# Altium integrated library Analog Devices Data Converters Digital-to-Analog Converters.IntLib: 2231 symbols (part 169 of 181)
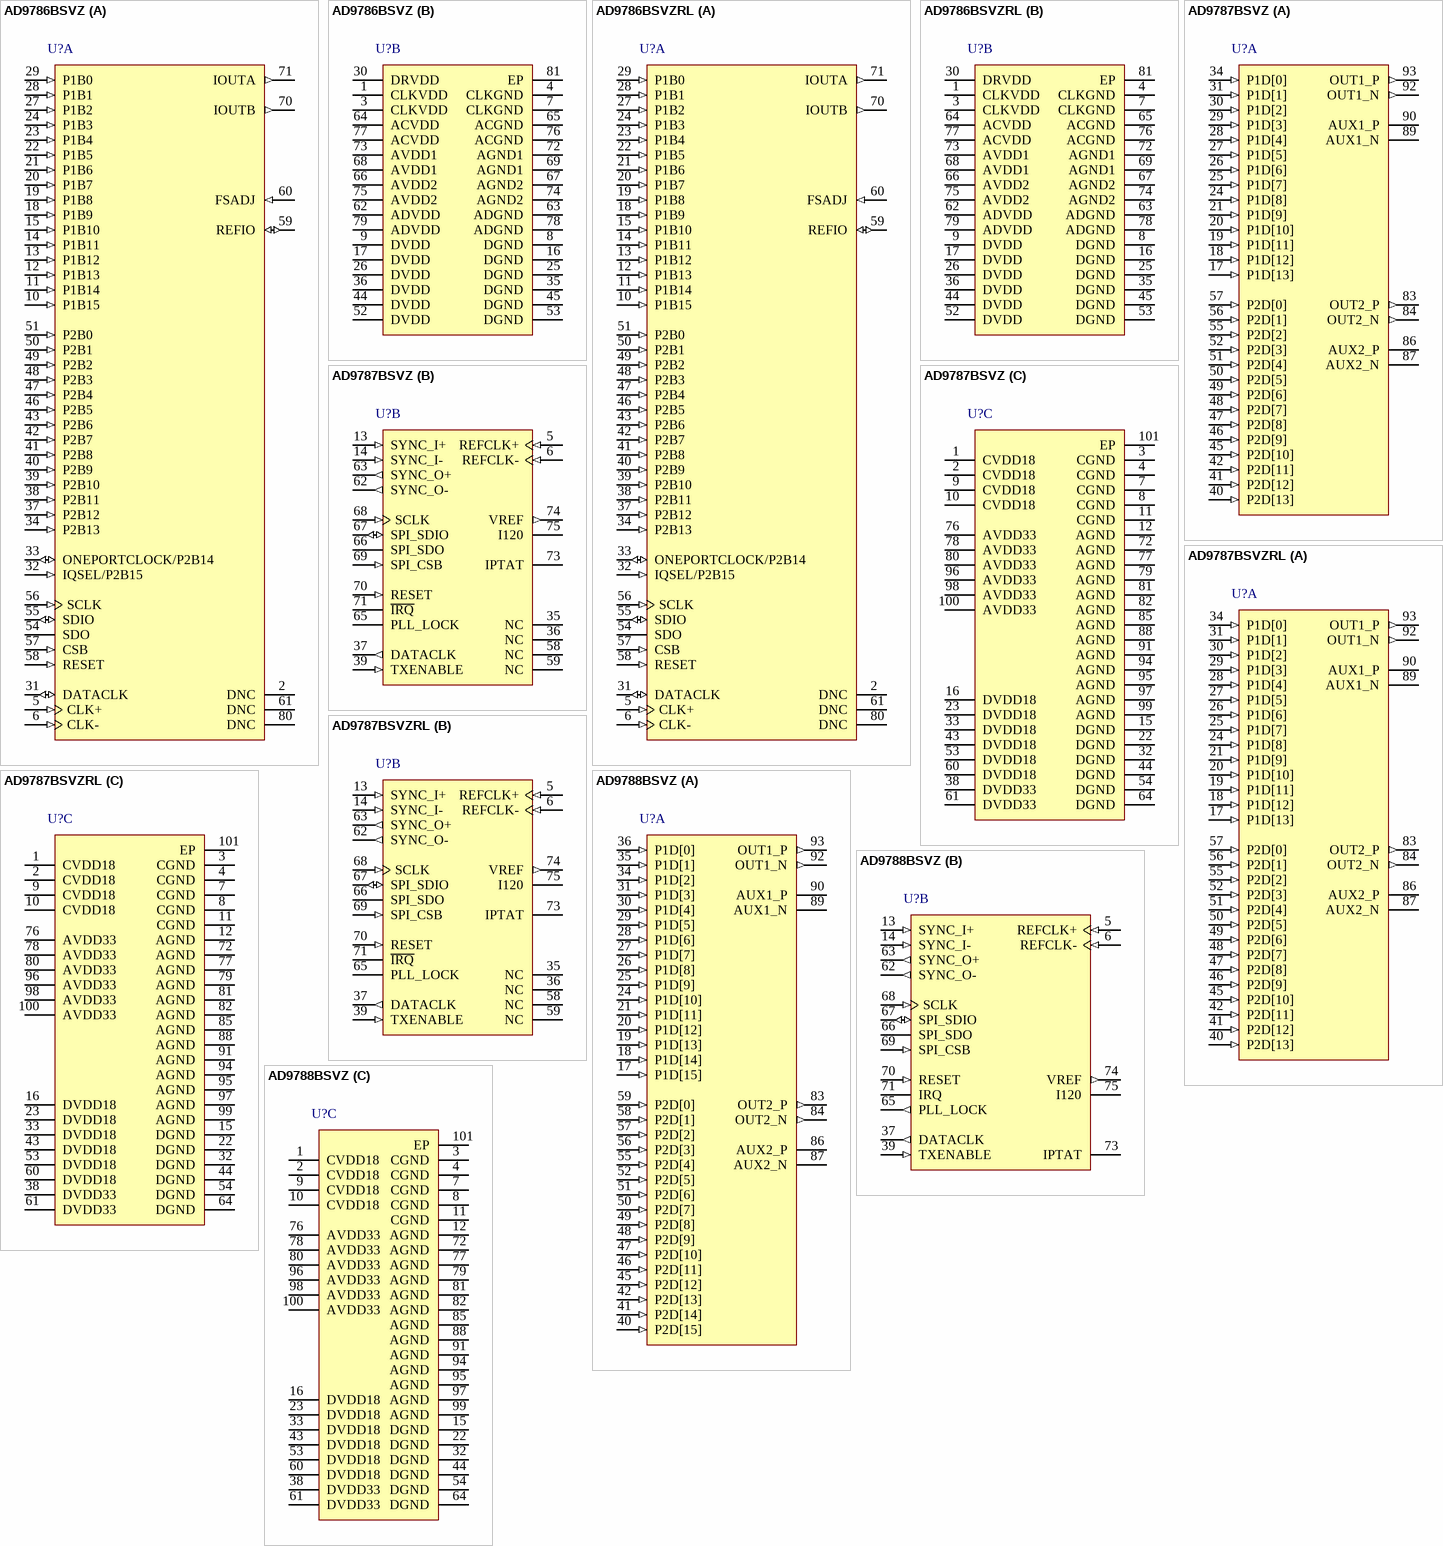
[diagram p282: symbols AD9786BSVZ to AD9788BSVZ]

## AD9787BSVZRL
designator U?
14-Bit Digital-to-Analog Converter with Low Power 32-Bit Complex NCO, 800 Msps, 0 to +70 degC, SV-100-1, Pb-Free, Reel; Generic Part Number: AD9787; Manufacturer: Analog Devices; PartNumber: AD9787BSVZRL; # DAC Outputs: 2; Max V+: 3.47V; Op Pwr Diss: 450mW; Resolution (Bits): 14; Single Supply: No; DatasheetVersion: Rev.A; PackageVersion: 040506-A; PackageReference: SV-100-1; PackageDescription: 100-Lead Thin Quad Flat Package, Exposed Pad [TQFP_EP]; Supplier 1: Digi-Key; Supplier Part Number 1: AD9787BSVZRL-ND; Supplier 2: Mouser; Supplier Part Number 2: 584-AD9787BSVZR; Packing: Reel; RoHS: Y; Mounting Technology: Surface Mount; Code_JEDEC: MS-026-AED-HD; ComponentLink1Description: Manufacturer URL; ComponentLink1URL: http://www.analog.com/en/index.html; ComponentLink2Description: Datasheet; ComponentLink2URL: http://www.analog.com/static/imported-files/data_sheets/AD9785_9787_9788.pdf; ComponentLink3Description: Package Specification; ComponentLink3URL: http://www.analog.com/static/imported-files/packages/PKG_PDF/TQFP_ED(SV)/SV_100_1.pdf; ComponentLink4Description: Product URL; ComponentLink4URL: http://www.analog.com/en/digital-to-analog-converters/da-converters/ad9787/products/product.html
footprint SV-100-1_N (Thin QFP, 100-Leads, Body 14x14mm, Pitch 0.5mm, Thermal Pad 6.5x6.5mm, IPC Medium Density)
footprint SV-100-1_L (Thin QFP, 100-Leads, Body 14x14mm, Pitch 0.5mm, Thermal Pad 6.5x6.5mm, IPC High Density)
footprint SV-100-1_M (Thin QFP, 100-Leads, Body 14x14mm, Pitch 0.5mm, Thermal Pad 6.5x6.5mm, IPC Low Density)
part A pins: 17 P1D[13] (in) "Port 1, Data Input D13 (MSB).", 18 P1D[12] (in) "Port 1, Data Input D12.", 19 P1D[11] (in) "Port 1, Data Input D11.", 20 P1D[10] (in) "Port 1, Data Input D10.", 21 P1D[9] (in) "Port 1, Data Input D9.", 24 P1D[8] (in) "Port 1, Data Input D8.", 25 P1D[7] (in) "Port 1, Data Input D7.", 26 P1D[6] (in) "Port 1, Data Input D6.", 27 P1D[5] (in) "Port 1, Data Input D5.", 28 P1D[4] (in) "Port 1, Data Input D4.", 29 P1D[3] (in) "Port 1, Data Input D3.", 30 P1D[2] (in) "Port 1, Data Input D2.", 31 P1D[1] (in) "Port 1, Data Input D1.", 34 P1D[0] (in) "Port 1, Data Input D0 (LSB).", 40 P2D[13] (in) "Port 2, Data Input D13 (MSB).", 41 P2D[12] (in) "Port 2, Data Input D12.", 42 P2D[11] (in) "Port 2, Data Input D11.", 45 P2D[10] (in) "Port 2, Data Input D10.", 46 P2D[9] (in) "Port 2, Data Input D9.", 47 P2D[8] (in) "Port 2, Data Input D8.", 48 P2D[7] (in) "Port 2, Data Input D7.", 49 P2D[6] (in) "Port 2, Data Input D6.", 50 P2D[5] (in) "Port 2, Data Input D5.", 51 P2D[4] (in) "Port 2, Data Input D4.", 52 P2D[3] (in) "Port 2, Data Input D3.", 55 P2D[2] (in) "Port 2, Data Input D2.", 56 P2D[1] (in) "Port 2, Data Input D1.", 57 P2D[0] (in) "Port 2, Data Input D0 (LSB).", 83 OUT2_P (out) "Differential DAC Current Output, Positive, Channel 2.", 84 OUT2_N (out) "Differential DAC Current Output, Negative, Channel 2.", 86 AUX2_P (hiz) "Auxiliary DAC Current Output, Positive, Channel 2.", 87 AUX2_N (hiz) "Auxiliary DAC Current Output, Negative, Channel 2.", 89 AUX1_N (hiz) "Auxiliary DAC Current Output, Negative, Channel 1.", 90 AUX1_P (hiz) "Auxiliary DAC Current Output, Positive, Channel 1.", 92 OUT1_N (out) "Differential DAC Current Output, Negative, Channel 1.", 93 OUT1_P (out) "Differential DAC Current Output, Positive, Channel 1."
part B pins: 5 REFCLK+ (in) "Differential Clock Input, Positive.", 6 REFCLK- (in) "Differential Clock Input, Negative.", 13 SYNC_I+ (in) "Differential Synchronization Input, Positive.", 14 SYNC_I- (in) "Differential Synchronization Input, Negative.", 35 NC "No Connection Necessary.", 36 NC "No Connection Necessary.", 37 DATACLK (out) "Data Clock Output.", 39 TXENABLE (in) "Transmit Enable.", 58 NC "No Connection Necessary.", 59 NC "No Connection Necessary.", 62 SYNC_O- (out) "Differential Synchronization Output, Negative.", 63 SYNC_O+ (out) "Differential Synchronization Output, Positive.", 65 PLL_LOCK "PLL Lock Indicator.", 66 SPI_SDO (hiz) "SPI Port Data Output", 67 SPI_SDIO (io) "SPI Port Data Input/Output.", 68 SCLK (in) "SPI Port Clock", 69 SPI_CSB (in) "SPI Port Chip Select Bar.", 70 RESET (in) "Reset, Active High.", 71 ~{IRQ} (oc) "Interrupt Request.", 73 IPTAT "Factory Test Pin. Output current is proportional to absolute temperature, approximately 10 uA at 25degreesC with approximately 20 nA/degreesC slope. This pin should remain floating.", 74 VREF (out) "Voltage Reference Output.", 75 I120 "120 uA Reference Current."
part C pins: 1 CVDD18 (power) "1.8 V Clock Supply.", 2 CVDD18 (power) "1.8 V Clock Supply.", 3 CGND (power) "Clock Common.", 4 CGND (power) "Clock Common.", 7 CGND (power) "Clock Common.", 8 CGND (power) "Clock Common.", 9 CVDD18 (power) "1.8 V Clock Supply.", 10 CVDD18 (power) "1.8 V Clock Supply.", 11 CGND (power) "Clock Common.", 12 AGND (power) "Analog Common.", 15 DGND (power) "Digital Common.", 16 DVDD18 (power) "1.8 V Digital Supply.", 22 DGND (power) "Digital Common.", 23 DVDD18 (power) "1.8 V Digital Supply.", 32 DGND (power) "Digital Common.", 33 DVDD18 (power) "1.8 V Digital Supply.", 38 DVDD33 (power) "3.3 V Digital Supply.", 43 DVDD18 (power) "1.8 V Digital Supply.", 44 DGND (power) "Digital Common.", 53 DVDD18 (power) "1.8 V Digital Supply.", 54 DGND (power) "Digital Common.", 60 DVDD18 (power) "1.8 V Digital Supply.", 61 DVDD33 (power) "3.3 V Digital Supply.", 64 DGND (power) "Digital Common.", 72 AGND (power) "Analog Common.", 76 AVDD33 (power) "3.3 V Analog Supply.", 77 AGND (power) "Analog Common.", 78 AVDD33 (power) "3.3 V Analog Supply.", 79 AGND (power) "Analog Common.", 80 AVDD33 (power) "3.3 V Analog Supply.", 81 AGND (power) "Analog Common.", 82 AGND (power) "Analog Common.", 85 AGND (power) "Analog Common.", 88 AGND (power) "Analog Common.", 91 AGND (power) "Analog Common.", 94 AGND (power) "Analog Common.", 95 AGND (power) "Analog Common.", 96 AVDD33 (power) "3.3 V Analog Supply.", 97 AGND (power) "Analog Common.", 98 AVDD33 (power) "3.3 V Analog Supply.", 99 AGND (power) "Analog Common.", 100 AVDD33 (power) "3.3 V Analog Supply.", 101 EP (power) "Conductive Heat Sink. Connect to analog common (AGND)."

## AD9788BSVZ
designator U?
16-Bit Digital-to-Analog Converter with Low Power 32-Bit Complex NCO, 800 Msps, 0 to +70 degC, SV-100-1, Pb-Free, Tray; Generic Part Number: AD9788; Manufacturer: Analog Devices; PartNumber: AD9788BSVZ; # DAC Outputs: 2; Max V+: 3.47V; Op Pwr Diss: 450mW; Resolution (Bits): 16; Single Supply: No; DatasheetVersion: Rev.A; PackageVersion: 040506-A; PackageReference: SV-100-1; PackageDescription: 100-Lead Thin Quad Flat Package, Exposed Pad [TQFP_EP]; Supplier 1: Digi-Key; Supplier Part Number 1: AD9788BSVZ-ND; Supplier 2: Farnell; Supplier Part Number 2: 1571612; Supplier 3: Newark; Supplier Part Number 3: 84M7832; Supplier 4: Mouser; Supplier Part Number 4: 584-AD9788BSVZ; Packing: Tray; RoHS: Y; Mounting Technology: Surface Mount; Code_JEDEC: MS-026-AED-HD; ComponentLink1Description: Manufacturer URL; ComponentLink1URL: http://www.analog.com/en/index.html; ComponentLink2Description: Datasheet; ComponentLink2URL: http://www.analog.com/static/imported-files/data_sheets/AD9785_9787_9788.pdf; ComponentLink3Description: Package Specification; ComponentLink3URL: http://www.analog.com/static/imported-files/packages/PKG_PDF/TQFP_ED(SV)/SV_100_1.pdf; ComponentLink4Description: Product URL; ComponentLink4URL: http://www.analog.com/en/digital-to-analog-converters/da-converters/ad9788/products/product.html; ComponentLink5Description: Reference Design URL; ComponentLink5URL: http://www.analog.com/en/digital-to-analog-converters/da-converters/ad9788/products/product.html#prod_cross_sell
footprint SV-100-1_N (Thin QFP, 100-Leads, Body 14x14mm, Pitch 0.5mm, Thermal Pad 6.5x6.5mm, IPC Medium Density)
footprint SV-100-1_L (Thin QFP, 100-Leads, Body 14x14mm, Pitch 0.5mm, Thermal Pad 6.5x6.5mm, IPC High Density)
footprint SV-100-1_M (Thin QFP, 100-Leads, Body 14x14mm, Pitch 0.5mm, Thermal Pad 6.5x6.5mm, IPC Low Density)
part A pins: 17 P1D[15] (in) "Port 1, Data Input D15 (MSB).", 18 P1D[14] (in) "Port 1, Data Input D14.", 19 P1D[13] (in) "Port 1, Data Input D13.", 20 P1D[12] (in) "Port 1, Data Input D12.", 21 P1D[11] (in) "Port 1, Data Input D11.", 24 P1D[10] (in) "Port 1, Data Input D10.", 25 P1D[9] (in) "Port 1, Data Input D9.", 26 P1D[8] (in) "Port 1, Data Input D8.", 27 P1D[7] (in) "Port 1, Data Input D7.", 28 P1D[6] (in) "Port 1, Data Input D6.", 29 P1D[5] (in) "Port 1, Data Input D5.", 30 P1D[4] (in) "Port 1, Data Input D4.", 31 P1D[3] (in) "Port 1, Data Input D3.", 34 P1D[2] (in) "Port 1, Data Input D2.", 35 P1D[1] (in) "Port 1, Data Input D1.", 36 P1D[0] (in) "Port 1, Data Input D0 (LSB).", 40 P2D[15] (in) "Port 2, Data Input D15 (MSB).", 41 P2D[14] (in) "Port 2, Data Input D14.", 42 P2D[13] (in) "Port 2, Data Input D13.", 45 P2D[12] (in) "Port 2, Data Input D12.", 46 P2D[11] (in) "Port 2, Data Input D11.", 47 P2D[10] (in) "Port 2, Data Input D10.", 48 P2D[9] (in) "Port 2, Data Input D9.", 49 P2D[8] (in) "Port 2, Data Input D8.", 50 P2D[7] (in) "Port 2, Data Input D7.", 51 P2D[6] (in) "Port 2, Data Input D6.", 52 P2D[5] (in) "Port 2, Data Input D5.", 55 P2D[4] (in) "Port 2, Data Input D4.", 56 P2D[3] (in) "Port 2, Data Input D3.", 57 P2D[2] (in) "Port 2, Data Input D2.", 58 P2D[1] (in) "Port 2, Data Input D1.", 59 P2D[0] (in) "Port 2, Data Input D0 (LSB).", 83 OUT2_P (out) "Differential DAC Current Output, Positive, Channel 2.", 84 OUT2_N (out) "Differential DAC Current Output, Negative, Channel 2.", 86 AUX2_P (hiz) "Auxiliary DAC Current Output, Positive, Channel 2.", 87 AUX2_N (hiz) "Auxiliary DAC Current Output, Negative, Channel 2.", 89 AUX1_N (hiz) "Auxiliary DAC Current Output, Negative, Channel 1.", 90 AUX1_P (hiz) "Auxiliary DAC Current Output, Positive, Channel 1.", 92 OUT1_N (out) "Differential DAC Current Output, Negative, Channel 1.", 93 OUT1_P (out) "Differential DAC Current Output, Positive, Channel 1."
part B pins: 5 REFCLK+ (in) "Differential Clock Input, Positive.", 6 REFCLK- (in) "Differential Clock Input, Negative.", 13 SYNC_I+ (in) "Differential Synchronization Input, Positive.", 14 SYNC_I- (in) "Differential Synchronization Input, Negative.", 37 DATACLK (out) "Data Clock Output.", 39 TXENABLE (in) "Transmit Enable.", 62 SYNC_O- (out) "Differential Synchronization Output, Negative.", 63 SYNC_O+ (out) "Differential Synchronization Output, Positive.", 65 PLL_LOCK (out) "PLL Lock Indicator.", 66 SPI_SDO (hiz) "SPI Port Data Output.", 67 SPI_SDIO (io) "SPI Port Data Input/Output.", 68 SCLK (in) "SPI Port Clock.", 69 SPI_CSB (in) "SPI Port Chip Select Bar.", 70 RESET (in) "Reset, Active High.", 71 IRQ (oc) "Interrupt Request.", 73 IPTAT "Factory Test Pin. Output current is proportional to absolute temperature, approximately 10 uA at 25degreesC with approximately 20 nA/degreesC slope. This pin should remain floating.", 74 VREF (out) "Voltage Reference Output.", 75 I120 "120 uA Reference Current."
part C pins: 1 CVDD18 (power) "1.8 V Clock Supply.", 2 CVDD18 (power) "1.8 V Clock Supply.", 3 CGND (power) "Clock Common.", 4 CGND (power) "Clock Common.", 7 CGND (power) "Clock Common.", 8 CGND (power) "Clock Common.", 9 CVDD18 (power) "1.8 V Clock Supply.", 10 CVDD18 (power) "1.8 V Clock Supply.", 11 CGND (power) "Clock Common.", 12 AGND (power) "Analog Common.", 15 DGND (power) "Digital Common.", 16 DVDD18 (power) "1.8 V Digital Supply.", 22 DGND (power) "Digital Common.", 23 DVDD18 (power) "1.8 V Digital Supply.", 32 DGND (power) "Digital Common.", 33 DVDD18 (power) "1.8 V Digital Supply.", 38 DVDD33 (power) "3.3 V Digital Supply.", 43 DVDD18 (power) "1.8 V Digital Supply.", 44 DGND (power) "Digital Common.", 53 DVDD18 (power) "1.8 V Digital Supply.", 54 DGND (power) "Digital Common.", 60 DVDD18 (power) "1.8 V Digital Supply.", 61 DVDD33 (power) "3.3 V Digital Supply.", 64 DGND (power) "Digital Common.", 72 AGND (power) "Analog Common.", 76 AVDD33 (power) "3.3 V Analog Supply.", 77 AGND (power) "Analog Common.", 78 AVDD33 (power) "3.3 V Analog Supply.", 79 AGND (power) "Analog Common.", 80 AVDD33 (power) "3.3 V Analog Supply.", 81 AGND (power) "Analog Common.", 82 AGND (power) "Analog Common.", 85 AGND (power) "Analog Common.", 88 AGND (power) "Analog Common.", 91 AGND (power) "Analog Common.", 94 AGND (power) "Analog Common.", 95 AGND (power) "Analog Common.", 96 AVDD33 (power) "3.3 V Analog Supply.", 97 AGND (power) "Analog Common.", 98 AVDD33 (power) "3.3 V Analog Supply.", 99 AGND (power) "Analog Common.", 100 AVDD33 (power) "3.3 V Analog Supply.", 101 EP (power) "Conductive Heat Sink. Connect to analog common (AGND)."

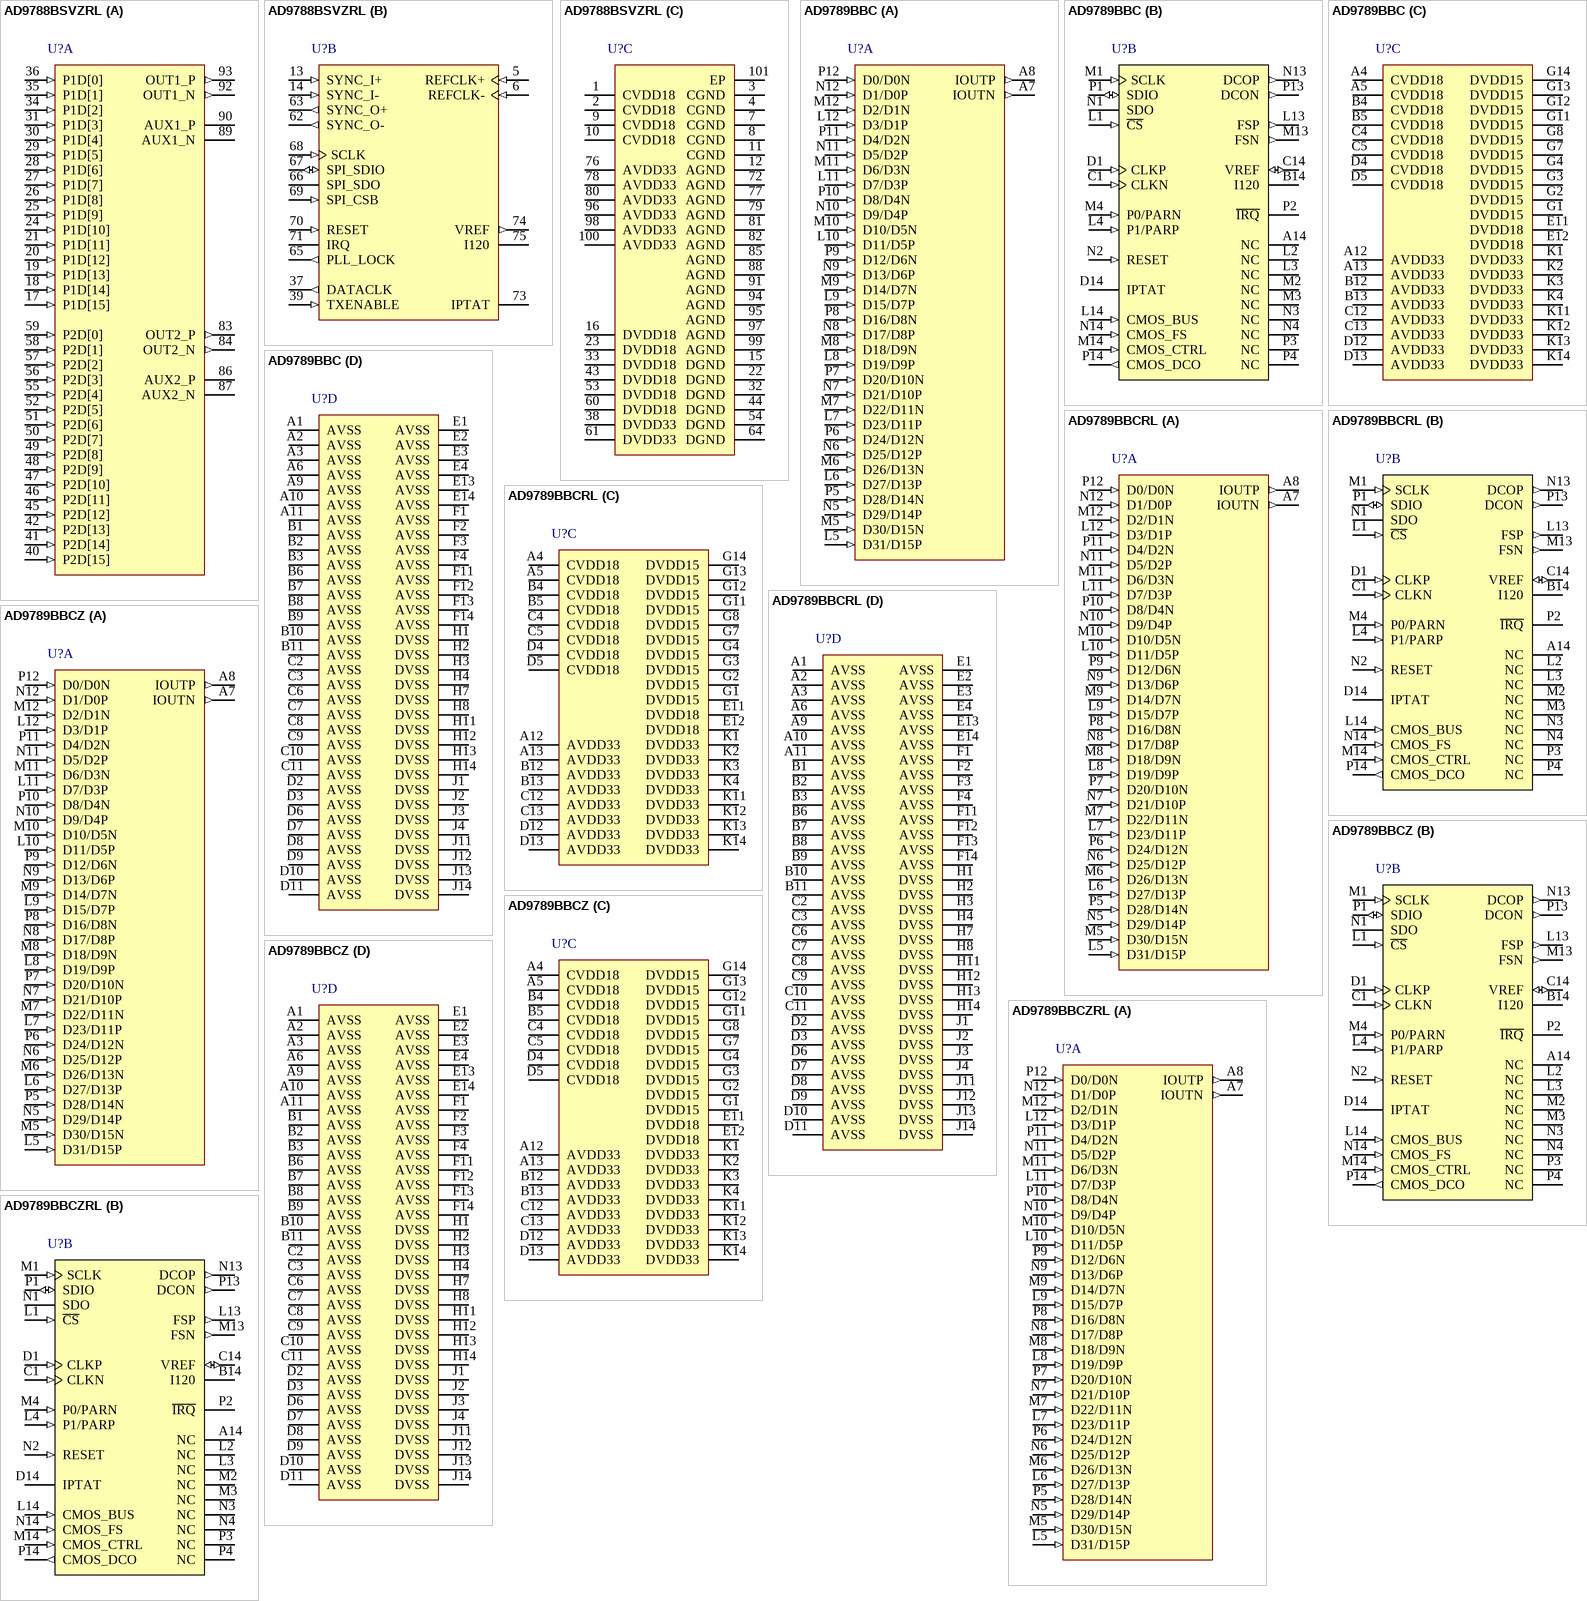
[diagram p106: symbols AD9788BSVZRL to AD9789BBCZRL]

## AD9788BSVZRL
designator U?
16-Bit Digital-to-Analog Converter with Low Power 32-Bit Complex NCO, 800 Msps, 0 to +70 degC, SV-100-1, Pb-Free, Reel; Generic Part Number: AD9788; Manufacturer: Analog Devices; PartNumber: AD9788BSVZRL; # DAC Outputs: 2; Max V+: 3.47V; Op Pwr Diss: 450mW; Resolution (Bits): 16; Single Supply: No; DatasheetVersion: Rev.A; PackageVersion: 040506-A; PackageReference: SV-100-1; PackageDescription: 100-Lead Thin Quad Flat Package, Exposed Pad [TQFP_EP]; Supplier 1: Digi-Key; Supplier Part Number 1: AD9788BSVZRL-ND; Supplier 2: Mouser; Supplier Part Number 2: 584-AD9788BSVZR; Packing: Reel; RoHS: Y; Mounting Technology: Surface Mount; Code_JEDEC: MS-026-AED-HD; ComponentLink1Description: Manufacturer URL; ComponentLink1URL: http://www.analog.com/en/index.html; ComponentLink2Description: Datasheet; ComponentLink2URL: http://www.analog.com/static/imported-files/data_sheets/AD9785_9787_9788.pdf; ComponentLink3Description: Package Specification; ComponentLink3URL: http://www.analog.com/static/imported-files/packages/PKG_PDF/TQFP_ED(SV)/SV_100_1.pdf; ComponentLink4Description: Product URL; ComponentLink4URL: http://www.analog.com/en/digital-to-analog-converters/da-converters/ad9788/products/product.html; ComponentLink5Description: Reference Design URL; ComponentLink5URL: http://www.analog.com/en/digital-to-analog-converters/da-converters/ad9788/products/product.html#prod_cross_sell
footprint SV-100-1_N (Thin QFP, 100-Leads, Body 14x14mm, Pitch 0.5mm, Thermal Pad 6.5x6.5mm, IPC Medium Density)
footprint SV-100-1_L (Thin QFP, 100-Leads, Body 14x14mm, Pitch 0.5mm, Thermal Pad 6.5x6.5mm, IPC High Density)
footprint SV-100-1_M (Thin QFP, 100-Leads, Body 14x14mm, Pitch 0.5mm, Thermal Pad 6.5x6.5mm, IPC Low Density)
part A pins: 17 P1D[15] (in) "Port 1, Data Input D15 (MSB).", 18 P1D[14] (in) "Port 1, Data Input D14.", 19 P1D[13] (in) "Port 1, Data Input D13.", 20 P1D[12] (in) "Port 1, Data Input D12.", 21 P1D[11] (in) "Port 1, Data Input D11.", 24 P1D[10] (in) "Port 1, Data Input D10.", 25 P1D[9] (in) "Port 1, Data Input D9.", 26 P1D[8] (in) "Port 1, Data Input D8.", 27 P1D[7] (in) "Port 1, Data Input D7.", 28 P1D[6] (in) "Port 1, Data Input D6.", 29 P1D[5] (in) "Port 1, Data Input D5.", 30 P1D[4] (in) "Port 1, Data Input D4.", 31 P1D[3] (in) "Port 1, Data Input D3.", 34 P1D[2] (in) "Port 1, Data Input D2.", 35 P1D[1] (in) "Port 1, Data Input D1.", 36 P1D[0] (in) "Port 1, Data Input D0 (LSB).", 40 P2D[15] (in) "Port 2, Data Input D15 (MSB).", 41 P2D[14] (in) "Port 2, Data Input D14.", 42 P2D[13] (in) "Port 2, Data Input D13.", 45 P2D[12] (in) "Port 2, Data Input D12.", 46 P2D[11] (in) "Port 2, Data Input D11.", 47 P2D[10] (in) "Port 2, Data Input D10.", 48 P2D[9] (in) "Port 2, Data Input D9.", 49 P2D[8] (in) "Port 2, Data Input D8.", 50 P2D[7] (in) "Port 2, Data Input D7.", 51 P2D[6] (in) "Port 2, Data Input D6.", 52 P2D[5] (in) "Port 2, Data Input D5.", 55 P2D[4] (in) "Port 2, Data Input D4.", 56 P2D[3] (in) "Port 2, Data Input D3.", 57 P2D[2] (in) "Port 2, Data Input D2.", 58 P2D[1] (in) "Port 2, Data Input D1.", 59 P2D[0] (in) "Port 2, Data Input D0 (LSB).", 83 OUT2_P (out) "Differential DAC Current Output, Positive, Channel 2.", 84 OUT2_N (out) "Differential DAC Current Output, Negative, Channel 2.", 86 AUX2_P (hiz) "Auxiliary DAC Current Output, Positive, Channel 2.", 87 AUX2_N (hiz) "Auxiliary DAC Current Output, Negative, Channel 2.", 89 AUX1_N (hiz) "Auxiliary DAC Current Output, Negative, Channel 1.", 90 AUX1_P (hiz) "Auxiliary DAC Current Output, Positive, Channel 1.", 92 OUT1_N (out) "Differential DAC Current Output, Negative, Channel 1.", 93 OUT1_P (out) "Differential DAC Current Output, Positive, Channel 1."
part B pins: 5 REFCLK+ (in) "Differential Clock Input, Positive.", 6 REFCLK- (in) "Differential Clock Input, Negative.", 13 SYNC_I+ (in) "Differential Synchronization Input, Positive.", 14 SYNC_I- (in) "Differential Synchronization Input, Negative.", 37 DATACLK (out) "Data Clock Output.", 39 TXENABLE (in) "Transmit Enable.", 62 SYNC_O- (out) "Differential Synchronization Output, Negative.", 63 SYNC_O+ (out) "Differential Synchronization Output, Positive.", 65 PLL_LOCK (out) "PLL Lock Indicator.", 66 SPI_SDO (hiz) "SPI Port Data Output.", 67 SPI_SDIO (io) "SPI Port Data Input/Output.", 68 SCLK (in) "SPI Port Clock.", 69 SPI_CSB (in) "SPI Port Chip Select Bar.", 70 RESET (in) "Reset, Active High.", 71 IRQ (oc) "Interrupt Request.", 73 IPTAT "Factory Test Pin. Output current is proportional to absolute temperature, approximately 10 uA at 25degreesC with approximately 20 nA/degreesC slope. This pin should remain floating.", 74 VREF (out) "Voltage Reference Output.", 75 I120 "120 uA Reference Current."
part C pins: 1 CVDD18 (power) "1.8 V Clock Supply.", 2 CVDD18 (power) "1.8 V Clock Supply.", 3 CGND (power) "Clock Common.", 4 CGND (power) "Clock Common.", 7 CGND (power) "Clock Common.", 8 CGND (power) "Clock Common.", 9 CVDD18 (power) "1.8 V Clock Supply.", 10 CVDD18 (power) "1.8 V Clock Supply.", 11 CGND (power) "Clock Common.", 12 AGND (power) "Analog Common.", 15 DGND (power) "Digital Common.", 16 DVDD18 (power) "1.8 V Digital Supply.", 22 DGND (power) "Digital Common.", 23 DVDD18 (power) "1.8 V Digital Supply.", 32 DGND (power) "Digital Common.", 33 DVDD18 (power) "1.8 V Digital Supply.", 38 DVDD33 (power) "3.3 V Digital Supply.", 43 DVDD18 (power) "1.8 V Digital Supply.", 44 DGND (power) "Digital Common.", 53 DVDD18 (power) "1.8 V Digital Supply.", 54 DGND (power) "Digital Common.", 60 DVDD18 (power) "1.8 V Digital Supply.", 61 DVDD33 (power) "3.3 V Digital Supply.", 64 DGND (power) "Digital Common.", 72 AGND (power) "Analog Common.", 76 AVDD33 (power) "3.3 V Analog Supply.", 77 AGND (power) "Analog Common.", 78 AVDD33 (power) "3.3 V Analog Supply.", 79 AGND (power) "Analog Common.", 80 AVDD33 (power) "3.3 V Analog Supply.", 81 AGND (power) "Analog Common.", 82 AGND (power) "Analog Common.", 85 AGND (power) "Analog Common.", 88 AGND (power) "Analog Common.", 91 AGND (power) "Analog Common.", 94 AGND (power) "Analog Common.", 95 AGND (power) "Analog Common.", 96 AVDD33 (power) "3.3 V Analog Supply.", 97 AGND (power) "Analog Common.", 98 AVDD33 (power) "3.3 V Analog Supply.", 99 AGND (power) "Analog Common.", 100 AVDD33 (power) "3.3 V Analog Supply.", 101 EP (power) "Conductive Heat Sink. Connect to analog common (AGND)."

## AD9789BBC
designator U?
14-Bit Digital-to-Analog Converter, 2400 Msps, -40 to +85 degC, BC-164-1, Tray; Generic Part Number: AD9789; Manufacturer: Analog Devices; PartNumber: AD9789BBC; # DAC Outputs: 1; Max V+: 3.47V; Op Pwr Diss: 1.7W; Resolution (Bits): 14; Settling Time: 13ns; Single Supply: No; DatasheetVersion: Rev.A; PackageVersion: 111808-A; PackageReference: BC-164-1; PackageDescription: 164-Ball Chip Scale Package Ball Grid Array [CSP_BGA]; Supplier 1: Digi-Key; Supplier Part Number 1: AD9789BBC-ND; Supplier 2: Mouser; Supplier Part Number 2: 584-AD9789BBC; Packing: Tray; RoHS: N; Mounting Technology: Surface Mount; Code_JEDEC: MO-219*; ComponentLink1Description: Manufacturer URL; ComponentLink1URL: http://www.analog.com/en/index.html; ComponentLink2Description: Datasheet; ComponentLink2URL: http://www.analog.com/static/imported-files/data_sheets/AD9789.pdf; ComponentLink3Description: Package Specification; ComponentLink3URL: http://www.analog.com/static/imported-files/packages/PKG_PDF/CSPBGA%20(BC)/BC_164_1.pdf; ComponentLink4Description: Product URL; ComponentLink4URL: http://www.analog.com/en/digital-to-analog-converters/da-converters/ad9789/products/product.html
footprint BC-164-1 (BGA, 164-Leads, Body 12x12mm, Pitch 0.8mm)
part A pins: A7 IOUTN (out) "DAC Negative Output Current.", A8 IOUTP (out) "DAC Positive Output Current.", L5 D31/D15P (in) "CMOS/LVDS Data Input.", L6 D27/D13P (in) "CMOS/LVDS Data Input.", L7 D23/D11P (in) "CMOS/LVDS Data Input.", L8 D19/D9P (in) "CMOS/LVDS Data Input.", L9 D15/D7P (in) "CMOS/LVDS Data Input.", L10 D11/D5P (in) "CMOS/LVDS Data Input.", L11 D7/D3P (in) "CMOS/LVDS Data Input.", L12 D3/D1P (in) "CMOS/LVDS Data Input.", M5 D30/D15N (in) "CMOS/LVDS Data Input.", M6 D26/D13N (in) "CMOS/LVDS Data Input.", M7 D22/D11N (in) "CMOS/LVDS Data Input.", M8 D18/D9N (in) "CMOS/LVDS Data Input.", M9 D14/D7N (in) "CMOS/LVDS Data Input.", M10 D10/D5N (in) "CMOS/LVDS Data Input.", M11 D6/D3N (in) "CMOS/LVDS Data Input.", M12 D2/D1N (in) "CMOS/LVDS Data Input.", N5 D29/D14P (in) "CMOS/LVDS Data Input.", N6 D25/D12P (in) "CMOS/LVDS Data Input.", N7 D21/D10P (in) "CMOS/LVDS Data Input.", N8 D17/D8P (in) "CMOS/LVDS Data Input.", N9 D13/D6P (in) "CMOS/LVDS Data Input.", N10 D9/D4P (in) "CMOS/LVDS Data Input.", N11 D5/D2P (in) "CMOS/LVDS Data Input.", N12 D1/D0P (in) "CMOS/LVDS Data Input.", P5 D28/D14N (in) "CMOS/LVDS Data Input.", P6 D24/D12N (in) "CMOS/LVDS Data Input.", P7 D20/D10N (in) "CMOS/LVDS Data Input.", P8 D16/D8N (in) "CMOS/LVDS Data Input.", P9 D12/D6N (in) "CMOS/LVDS Data Input.", P10 D8/D4N (in) "CMOS/LVDS Data Input.", P11 D4/D2N (in) "CMOS/LVDS Data Input.", P12 D0/D0N (in) "CMOS/LVDS Data Input."
part B pins: A14 NC "No Connect. Leave floating.", B14 I120 "Tie this pin to analog ground with a 10 k ohm resistor to generate a 120 uA reference current.", C1 CLKN (in) "Negative DAC Clock Input (DACCLK).", C14 VREF (io) "Band Gap Voltage Reference I/O. Decouple to analog ground with a 1 nF capacitor. Output impedance is approximately 5 k ohm.", D1 CLKP (in) "Positive DAC Clock Input (DACCLK).", D14 IPTAT "Factory Test Pin. Output current, proportional to absolute temperature, is approximately 10 uA at 25 dgeC with a slope of approximately 20 nA/ degC.", L1 ~{CS} (in) "Active Low Chip Select for SPI.", L2 NC "Not Used. Leave unconnected.", L3 NC "Not Used. Leave unconnected.", L4 P1/PARP (in) "CMOS/LVDS Parity Bit.", L13 FSP (out) "Positive LVDS Frame Sync (FSP) for Data Bus.", L14 CMOS_BUS (in) "Active High Input. Configures data bus for CMOS inputs. Low input configures data bus to accept LVDS inputs.", M1 SCLK (in) "Qualifying Clock for SPI.", M2 NC "Not Used. Leave unconnected.", M3 NC "Not Used. Leave unconnected.", M4 P0/PARN (in) "CMOS/LVDS Parity Bit.", M13 FSN (out) "Negative LVDS Frame Sync (FSN) for Data Bus.", M14 CMOS_CTRL (in) "Active High Input. Enables CMOS_DCO and CMOS_FS signals and disables DCOP/DCON and FSP/FSN signals. Low input disables CMOS_DCO and CMOS_FS signals and enables DCOP/DCON and FSP/FSN signals.", N1 SDO (hiz) "Serial Data Output for SPI.", N2 RESET (in) "Active High Input. Resets the AD9789.", N3 NC "Not Used. Leave unconnected.", N4 NC "Not Used. Leave unconnected.", N13 DCOP (out) "Positive LVDS Data Clock Output (DCOP) for Data Bus.", N14 CMOS_FS (in) "CMOS Frame Sync for Data Bus.", P1 SDIO (io) "Serial Data Input/Output for SPI.", P2 ~{IRQ} (oc) "Active Low, Open-Drain Interrupt Request Output. Pull up to DVDD33 with a 10 k ohm resistor.", P3 NC "Not Used. Leave unconnected.", P4 NC "Not Used. Leave unconnected.", P13 DCON (out) "Negative LVDS Data Clock Output (DCON) for Data Bus.", P14 CMOS_DCO (out) "CMOS Data Clock Output for Data Bus."
part C pins: A4 CVDD18 (power) "1.8 V Clock Supply.", A5 CVDD18 (power) "1.8 V Clock Supply.", A12 AVDD33 (power) "3.3 V Analog Supply.", A13 AVDD33 (power) "3.3 V Analog Supply.", B4 CVDD18 (power) "1.8 V Clock Supply.", B5 CVDD18 (power) "1.8 V Clock Supply.", B12 AVDD33 (power) "3.3 V Analog Supply.", B13 AVDD33 (power) "3.3 V Analog Supply.", C4 CVDD18 (power) "1.8 V Clock Supply.", C5 CVDD18 (power) "1.8 V Clock Supply.", C12 AVDD33 (power) "3.3 V Analog Supply.", C13 AVDD33 (power) "3.3 V Analog Supply.", D4 CVDD18 (power) "1.8 V Clock Supply.", D5 CVDD18 (power) "1.8 V Clock Supply.", D12 AVDD33 (power) "3.3 V Analog Supply.", D13 AVDD33 (power) "3.3 V Analog Supply.", E11 DVDD18 (power) "1.8 V Digital Supply.", E12 DVDD18 (power) "1.8 V Digital Supply.", G1 DVDD15 (power) "1.5 V Digital Supply.", G2 DVDD15 (power) "1.5 V Digital Supply.", G3 DVDD15 (power) "1.5 V Digital Supply.", G4 DVDD15 (power) "1.5 V Digital Supply.", G7 DVDD15 (power) "1.5 V Digital Supply.", G8 DVDD15 (power) "1.5 V Digital Supply.", G11 DVDD15 (power) "1.5 V Digital Supply.", G12 DVDD15 (power) "1.5 V Digital Supply.", G13 DVDD15 (power) "1.5 V Digital Supply.", G14 DVDD15 (power) "1.5 V Digital Supply.", K1 DVDD33 (power) "3.3 V Digital Supply.", K2 DVDD33 (power) "3.3 V Digital Supply.", K3 DVDD33 (power) "3.3 V Digital Supply.", K4 DVDD33 (power) "3.3 V Digital Supply.", K11 DVDD33 (power) "3.3 V Digital Supply.", K12 DVDD33 (power) "3.3 V Digital Supply.", K13 DVDD33 (power) "3.3 V Digital Supply.", K14 DVDD33 (power) "3.3 V Digital Supply."
part D pins: A1 AVSS (power) "Analog Supply Ground.", A2 AVSS (power) "Analog Supply Ground.", A3 AVSS (power) "Analog Supply Ground.", A6 AVSS (power) "Analog Supply Ground.", A9 AVSS (power) "Analog Supply Ground.", A10 AVSS (power) "Analog Supply Ground.", A11 AVSS (power) "Analog Supply Ground.", B1 AVSS (power) "Analog Supply Ground.", B2 AVSS (power) "Analog Supply Ground.", B3 AVSS (power) "Analog Supply Ground.", B6 AVSS (power) "Analog Supply Ground.", B7 AVSS (power) "Analog Supply Ground.", B8 AVSS (power) "Analog Supply Ground.", B9 AVSS (power) "Analog Supply Ground.", B10 AVSS (power) "Analog Supply Ground.", B11 AVSS (power) "Analog Supply Ground.", C2 AVSS (power) "Analog Supply Ground.", C3 AVSS (power) "Analog Supply Ground.", C6 AVSS (power) "Analog Supply Ground.", C7 AVSS (power) "Analog Supply Ground.", C8 AVSS (power) "Analog Supply Ground.", C9 AVSS (power) "Analog Supply Ground.", C10 AVSS (power) "Analog Supply Ground.", C11 AVSS (power) "Analog Supply Ground.", D2 AVSS (power) "Analog Supply Ground.", D3 AVSS (power) "Analog Supply Ground.", D6 AVSS (power) "Analog Supply Ground.", D7 AVSS (power) "Analog Supply Ground.", D8 AVSS (power) "Analog Supply Ground.", D9 AVSS (power) "Analog Supply Ground.", D10 AVSS (power) "Analog Supply Ground.", D11 AVSS (power) "Analog Supply Ground.", E1 AVSS (power) "Analog Supply Ground.", E2 AVSS (power) "Analog Supply Ground.", E3 AVSS (power) "Analog Supply Ground.", E4 AVSS (power) "Analog Supply Ground.", E13 AVSS (power) "Analog Supply Ground.", E14 AVSS (power) "Analog Supply Ground.", F1 AVSS (power) "Analog Supply Ground.", F2 AVSS (power) "Analog Supply Ground.", F3 AVSS (power) "Analog Supply Ground.", F4 AVSS (power) "Analog Supply Ground.", F11 AVSS (power) "Analog Supply Ground.", F12 AVSS (power) "Analog Supply Ground.", F13 AVSS (power) "Analog Supply Ground.", F14 AVSS (power) "Analog Supply Ground.", H1 DVSS (power) "Digital Supply Ground.", H2 DVSS (power) "Digital Supply Ground.", H3 DVSS (power) "Digital Supply Ground.", H4 DVSS (power) "Digital Supply Ground.", H7 DVSS (power) "Digital Supply Ground.", H8 DVSS (power) "Digital Supply Ground.", H11 DVSS (power) "Digital Supply Ground.", H12 DVSS (power) "Digital Supply Ground.", H13 DVSS (power) "Digital Supply Ground.", H14 DVSS (power) "Digital Supply Ground.", J1 DVSS (power) "Digital Supply Ground.", J2 DVSS (power) "Digital Supply Ground.", J3 DVSS (power) "Digital Supply Ground.", J4 DVSS (power) "Digital Supply Ground.", J11 DVSS (power) "Digital Supply Ground.", J12 DVSS (power) "Digital Supply Ground.", J13 DVSS (power) "Digital Supply Ground.", J14 DVSS (power) "Digital Supply Ground."

## AD9789BBCRL
designator U?
14-Bit Digital-to-Analog Converter, 2400 Msps, -40 to +85 degC, BC-164-1, Reel; Generic Part Number: AD9789; Manufacturer: Analog Devices; PartNumber: AD9789BBCRL; # DAC Outputs: 1; Max V+: 3.47V; Op Pwr Diss: 1.7W; Resolution (Bits): 14; Settling Time: 13ns; Single Supply: No; DatasheetVersion: Rev.A; PackageVersion: 111808-A; PackageReference: BC-164-1; PackageDescription: 164-Ball Chip Scale Package Ball Grid Array [CSP_BGA]; Supplier 1: Digi-Key; Supplier Part Number 1: AD9789BBCRL-ND; Supplier 2: Mouser; Supplier Part Number 2: 584-AD9789BBCR; Packing: Reel; RoHS: N; Mounting Technology: Surface Mount; Code_JEDEC: MO-219*; ComponentLink1Description: Manufacturer URL; ComponentLink1URL: http://www.analog.com/en/index.html; ComponentLink2Description: Datasheet; ComponentLink2URL: http://www.analog.com/static/imported-files/data_sheets/AD9789.pdf; ComponentLink3Description: Package Specification; ComponentLink3URL: http://www.analog.com/static/imported-files/packages/PKG_PDF/CSPBGA%20(BC)/BC_164_1.pdf; ComponentLink4Description: Product URL; ComponentLink4URL: http://www.analog.com/en/digital-to-analog-converters/da-converters/ad9789/products/product.html
footprint BC-164-1 (BGA, 164-Leads, Body 12x12mm, Pitch 0.8mm)
part A pins: A7 IOUTN (out) "DAC Negative Output Current.", A8 IOUTP (out) "DAC Positive Output Current.", L5 D31/D15P (in) "CMOS/LVDS Data Input.", L6 D27/D13P (in) "CMOS/LVDS Data Input.", L7 D23/D11P (in) "CMOS/LVDS Data Input.", L8 D19/D9P (in) "CMOS/LVDS Data Input.", L9 D15/D7P (in) "CMOS/LVDS Data Input.", L10 D11/D5P (in) "CMOS/LVDS Data Input.", L11 D7/D3P (in) "CMOS/LVDS Data Input.", L12 D3/D1P (in) "CMOS/LVDS Data Input.", M5 D30/D15N (in) "CMOS/LVDS Data Input.", M6 D26/D13N (in) "CMOS/LVDS Data Input.", M7 D22/D11N (in) "CMOS/LVDS Data Input.", M8 D18/D9N (in) "CMOS/LVDS Data Input.", M9 D14/D7N (in) "CMOS/LVDS Data Input.", M10 D10/D5N (in) "CMOS/LVDS Data Input.", M11 D6/D3N (in) "CMOS/LVDS Data Input.", M12 D2/D1N (in) "CMOS/LVDS Data Input.", N5 D29/D14P (in) "CMOS/LVDS Data Input.", N6 D25/D12P (in) "CMOS/LVDS Data Input.", N7 D21/D10P (in) "CMOS/LVDS Data Input.", N8 D17/D8P (in) "CMOS/LVDS Data Input.", N9 D13/D6P (in) "CMOS/LVDS Data Input.", N10 D9/D4P (in) "CMOS/LVDS Data Input.", N11 D5/D2P (in) "CMOS/LVDS Data Input.", N12 D1/D0P (in) "CMOS/LVDS Data Input.", P5 D28/D14N (in) "CMOS/LVDS Data Input.", P6 D24/D12N (in) "CMOS/LVDS Data Input.", P7 D20/D10N (in) "CMOS/LVDS Data Input.", P8 D16/D8N (in) "CMOS/LVDS Data Input.", P9 D12/D6N (in) "CMOS/LVDS Data Input.", P10 D8/D4N (in) "CMOS/LVDS Data Input.", P11 D4/D2N (in) "CMOS/LVDS Data Input.", P12 D0/D0N (in) "CMOS/LVDS Data Input."
part B pins: A14 NC "No Connect. Leave floating.", B14 I120 "Tie this pin to analog ground with a 10 k ohm resistor to generate a 120 uA reference current.", C1 CLKN (in) "Negative DAC Clock Input (DACCLK).", C14 VREF (io) "Band Gap Voltage Reference I/O. Decouple to analog ground with a 1 nF capacitor. Output impedance is approximately 5 k ohm.", D1 CLKP (in) "Positive DAC Clock Input (DACCLK).", D14 IPTAT "Factory Test Pin. Output current, proportional to absolute temperature, is approximately 10 uA at 25 dgeC with a slope of approximately 20 nA/ degC.", L1 ~{CS} (in) "Active Low Chip Select for SPI.", L2 NC "Not Used. Leave unconnected.", L3 NC "Not Used. Leave unconnected.", L4 P1/PARP (in) "CMOS/LVDS Parity Bit.", L13 FSP (out) "Positive LVDS Frame Sync (FSP) for Data Bus.", L14 CMOS_BUS (in) "Active High Input. Configures data bus for CMOS inputs. Low input configures data bus to accept LVDS inputs.", M1 SCLK (in) "Qualifying Clock for SPI.", M2 NC "Not Used. Leave unconnected.", M3 NC "Not Used. Leave unconnected.", M4 P0/PARN (in) "CMOS/LVDS Parity Bit.", M13 FSN (out) "Negative LVDS Frame Sync (FSN) for Data Bus.", M14 CMOS_CTRL (in) "Active High Input. Enables CMOS_DCO and CMOS_FS signals and disables DCOP/DCON and FSP/FSN signals. Low input disables CMOS_DCO and CMOS_FS signals and enables DCOP/DCON and FSP/FSN signals.", N1 SDO (hiz) "Serial Data Output for SPI.", N2 RESET (in) "Active High Input. Resets the AD9789.", N3 NC "Not Used. Leave unconnected.", N4 NC "Not Used. Leave unconnected.", N13 DCOP (out) "Positive LVDS Data Clock Output (DCOP) for Data Bus.", N14 CMOS_FS (in) "CMOS Frame Sync for Data Bus.", P1 SDIO (io) "Serial Data Input/Output for SPI.", P2 ~{IRQ} (oc) "Active Low, Open-Drain Interrupt Request Output. Pull up to DVDD33 with a 10 k ohm resistor.", P3 NC "Not Used. Leave unconnected.", P4 NC "Not Used. Leave unconnected.", P13 DCON (out) "Negative LVDS Data Clock Output (DCON) for Data Bus.", P14 CMOS_DCO (out) "CMOS Data Clock Output for Data Bus."
part C pins: A4 CVDD18 (power) "1.8 V Clock Supply.", A5 CVDD18 (power) "1.8 V Clock Supply.", A12 AVDD33 (power) "3.3 V Analog Supply.", A13 AVDD33 (power) "3.3 V Analog Supply.", B4 CVDD18 (power) "1.8 V Clock Supply.", B5 CVDD18 (power) "1.8 V Clock Supply.", B12 AVDD33 (power) "3.3 V Analog Supply.", B13 AVDD33 (power) "3.3 V Analog Supply.", C4 CVDD18 (power) "1.8 V Clock Supply.", C5 CVDD18 (power) "1.8 V Clock Supply.", C12 AVDD33 (power) "3.3 V Analog Supply.", C13 AVDD33 (power) "3.3 V Analog Supply.", D4 CVDD18 (power) "1.8 V Clock Supply.", D5 CVDD18 (power) "1.8 V Clock Supply.", D12 AVDD33 (power) "3.3 V Analog Supply.", D13 AVDD33 (power) "3.3 V Analog Supply.", E11 DVDD18 (power) "1.8 V Digital Supply.", E12 DVDD18 (power) "1.8 V Digital Supply.", G1 DVDD15 (power) "1.5 V Digital Supply.", G2 DVDD15 (power) "1.5 V Digital Supply.", G3 DVDD15 (power) "1.5 V Digital Supply.", G4 DVDD15 (power) "1.5 V Digital Supply.", G7 DVDD15 (power) "1.5 V Digital Supply.", G8 DVDD15 (power) "1.5 V Digital Supply.", G11 DVDD15 (power) "1.5 V Digital Supply.", G12 DVDD15 (power) "1.5 V Digital Supply.", G13 DVDD15 (power) "1.5 V Digital Supply.", G14 DVDD15 (power) "1.5 V Digital Supply.", K1 DVDD33 (power) "3.3 V Digital Supply.", K2 DVDD33 (power) "3.3 V Digital Supply.", K3 DVDD33 (power) "3.3 V Digital Supply.", K4 DVDD33 (power) "3.3 V Digital Supply.", K11 DVDD33 (power) "3.3 V Digital Supply.", K12 DVDD33 (power) "3.3 V Digital Supply.", K13 DVDD33 (power) "3.3 V Digital Supply.", K14 DVDD33 (power) "3.3 V Digital Supply."
part D pins: A1 AVSS (power) "Analog Supply Ground.", A2 AVSS (power) "Analog Supply Ground.", A3 AVSS (power) "Analog Supply Ground.", A6 AVSS (power) "Analog Supply Ground.", A9 AVSS (power) "Analog Supply Ground.", A10 AVSS (power) "Analog Supply Ground.", A11 AVSS (power) "Analog Supply Ground.", B1 AVSS (power) "Analog Supply Ground.", B2 AVSS (power) "Analog Supply Ground.", B3 AVSS (power) "Analog Supply Ground.", B6 AVSS (power) "Analog Supply Ground.", B7 AVSS (power) "Analog Supply Ground.", B8 AVSS (power) "Analog Supply Ground.", B9 AVSS (power) "Analog Supply Ground.", B10 AVSS (power) "Analog Supply Ground.", B11 AVSS (power) "Analog Supply Ground.", C2 AVSS (power) "Analog Supply Ground.", C3 AVSS (power) "Analog Supply Ground.", C6 AVSS (power) "Analog Supply Ground.", C7 AVSS (power) "Analog Supply Ground.", C8 AVSS (power) "Analog Supply Ground.", C9 AVSS (power) "Analog Supply Ground.", C10 AVSS (power) "Analog Supply Ground.", C11 AVSS (power) "Analog Supply Ground.", D2 AVSS (power) "Analog Supply Ground.", D3 AVSS (power) "Analog Supply Ground.", D6 AVSS (power) "Analog Supply Ground.", D7 AVSS (power) "Analog Supply Ground.", D8 AVSS (power) "Analog Supply Ground.", D9 AVSS (power) "Analog Supply Ground.", D10 AVSS (power) "Analog Supply Ground.", D11 AVSS (power) "Analog Supply Ground.", E1 AVSS (power) "Analog Supply Ground.", E2 AVSS (power) "Analog Supply Ground.", E3 AVSS (power) "Analog Supply Ground.", E4 AVSS (power) "Analog Supply Ground.", E13 AVSS (power) "Analog Supply Ground.", E14 AVSS (power) "Analog Supply Ground.", F1 AVSS (power) "Analog Supply Ground.", F2 AVSS (power) "Analog Supply Ground.", F3 AVSS (power) "Analog Supply Ground.", F4 AVSS (power) "Analog Supply Ground.", F11 AVSS (power) "Analog Supply Ground.", F12 AVSS (power) "Analog Supply Ground.", F13 AVSS (power) "Analog Supply Ground.", F14 AVSS (power) "Analog Supply Ground.", H1 DVSS (power) "Digital Supply Ground.", H2 DVSS (power) "Digital Supply Ground.", H3 DVSS (power) "Digital Supply Ground.", H4 DVSS (power) "Digital Supply Ground.", H7 DVSS (power) "Digital Supply Ground.", H8 DVSS (power) "Digital Supply Ground.", H11 DVSS (power) "Digital Supply Ground.", H12 DVSS (power) "Digital Supply Ground.", H13 DVSS (power) "Digital Supply Ground.", H14 DVSS (power) "Digital Supply Ground.", J1 DVSS (power) "Digital Supply Ground.", J2 DVSS (power) "Digital Supply Ground.", J3 DVSS (power) "Digital Supply Ground.", J4 DVSS (power) "Digital Supply Ground.", J11 DVSS (power) "Digital Supply Ground.", J12 DVSS (power) "Digital Supply Ground.", J13 DVSS (power) "Digital Supply Ground.", J14 DVSS (power) "Digital Supply Ground."

## AD9789BBCZ
designator U?
Single 14-Bit Digital-to-Analog Converter, 2400 Msps, -40 to +85 degC, BC-164-1, Pb-Free, Tray; Generic Part Number: AD9789; Manufacturer: Analog Devices; PartNumber: AD9789BBCZ; # DAC Outputs: 1; Max V+: 3.47V; Op Pwr Diss: 1.7W; Resolution (Bits): 14; Settling Time: 13ns; Single Supply: No; DatasheetVersion: Rev.A; PackageVersion: 111808-A; PackageReference: BC-164-1; PackageDescription: 164-Ball Chip Scale Package Ball Grid Array [CSP_BGA]; Supplier 1: Digi-Key; Supplier Part Number 1: AD9789BBCZ-ND; Supplier 2: Farnell; Supplier Part Number 2: 2074860; Supplier 3: Newark; Supplier Part Number 3: 05R6618; Supplier 4: Mouser; Supplier Part Number 4: 584-AD9789BBCZ; Packing: Tray; RoHS: Y; Mounting Technology: Surface Mount; Code_JEDEC: MO-219*; ComponentLink1Description: Manufacturer URL; ComponentLink1URL: http://www.analog.com/en/index.html; ComponentLink2Description: Datasheet; ComponentLink2URL: http://www.analog.com/static/imported-files/data_sheets/AD9789.pdf; ComponentLink3Description: Package Specification; ComponentLink3URL: http://www.analog.com/static/imported-files/packages/PKG_PDF/CSPBGA%20(BC)/BC_164_1.pdf; ComponentLink4Description: Product URL; ComponentLink4URL: http://www.analog.com/en/digital-to-analog-converters/da-converters/ad9789/products/product.html
footprint BC-164-1 (BGA, 164-Leads, Body 12x12mm, Pitch 0.8mm)
part A pins: A7 IOUTN (out) "DAC Negative Output Current.", A8 IOUTP (out) "DAC Positive Output Current.", L5 D31/D15P (in) "CMOS/LVDS Data Input.", L6 D27/D13P (in) "CMOS/LVDS Data Input.", L7 D23/D11P (in) "CMOS/LVDS Data Input.", L8 D19/D9P (in) "CMOS/LVDS Data Input.", L9 D15/D7P (in) "CMOS/LVDS Data Input.", L10 D11/D5P (in) "CMOS/LVDS Data Input.", L11 D7/D3P (in) "CMOS/LVDS Data Input.", L12 D3/D1P (in) "CMOS/LVDS Data Input.", M5 D30/D15N (in) "CMOS/LVDS Data Input.", M6 D26/D13N (in) "CMOS/LVDS Data Input.", M7 D22/D11N (in) "CMOS/LVDS Data Input.", M8 D18/D9N (in) "CMOS/LVDS Data Input.", M9 D14/D7N (in) "CMOS/LVDS Data Input.", M10 D10/D5N (in) "CMOS/LVDS Data Input.", M11 D6/D3N (in) "CMOS/LVDS Data Input.", M12 D2/D1N (in) "CMOS/LVDS Data Input.", N5 D29/D14P (in) "CMOS/LVDS Data Input.", N6 D25/D12P (in) "CMOS/LVDS Data Input.", N7 D21/D10P (in) "CMOS/LVDS Data Input.", N8 D17/D8P (in) "CMOS/LVDS Data Input.", N9 D13/D6P (in) "CMOS/LVDS Data Input.", N10 D9/D4P (in) "CMOS/LVDS Data Input.", N11 D5/D2P (in) "CMOS/LVDS Data Input.", N12 D1/D0P (in) "CMOS/LVDS Data Input.", P5 D28/D14N (in) "CMOS/LVDS Data Input.", P6 D24/D12N (in) "CMOS/LVDS Data Input.", P7 D20/D10N (in) "CMOS/LVDS Data Input.", P8 D16/D8N (in) "CMOS/LVDS Data Input.", P9 D12/D6N (in) "CMOS/LVDS Data Input.", P10 D8/D4N (in) "CMOS/LVDS Data Input.", P11 D4/D2N (in) "CMOS/LVDS Data Input.", P12 D0/D0N (in) "CMOS/LVDS Data Input."
part B pins: A14 NC "No Connect. Leave floating.", B14 I120 "Tie this pin to analog ground with a 10 k ohm resistor to generate a 120 uA reference current.", C1 CLKN (in) "Negative DAC Clock Input (DACCLK).", C14 VREF (io) "Band Gap Voltage Reference I/O. Decouple to analog ground with a 1 nF capacitor. Output impedance is approximately 5 k ohm.", D1 CLKP (in) "Positive DAC Clock Input (DACCLK).", D14 IPTAT "Factory Test Pin. Output current, proportional to absolute temperature, is approximately 10 uA at 25 dgeC with a slope of approximately 20 nA/ degC.", L1 ~{CS} (in) "Active Low Chip Select for SPI.", L2 NC "Not Used. Leave unconnected.", L3 NC "Not Used. Leave unconnected.", L4 P1/PARP (in) "CMOS/LVDS Parity Bit.", L13 FSP (out) "Positive LVDS Frame Sync (FSP) for Data Bus.", L14 CMOS_BUS (in) "Active High Input. Configures data bus for CMOS inputs. Low input configures data bus to accept LVDS inputs.", M1 SCLK (in) "Qualifying Clock for SPI.", M2 NC "Not Used. Leave unconnected.", M3 NC "Not Used. Leave unconnected.", M4 P0/PARN (in) "CMOS/LVDS Parity Bit.", M13 FSN (out) "Negative LVDS Frame Sync (FSN) for Data Bus.", M14 CMOS_CTRL (in) "Active High Input. Enables CMOS_DCO and CMOS_FS signals and disables DCOP/DCON and FSP/FSN signals. Low input disables CMOS_DCO and CMOS_FS signals and enables DCOP/DCON and FSP/FSN signals.", N1 SDO (hiz) "Serial Data Output for SPI.", N2 RESET (in) "Active High Input. Resets the AD9789.", N3 NC "Not Used. Leave unconnected.", N4 NC "Not Used. Leave unconnected.", N13 DCOP (out) "Positive LVDS Data Clock Output (DCOP) for Data Bus.", N14 CMOS_FS (in) "CMOS Frame Sync for Data Bus.", P1 SDIO (io) "Serial Data Input/Output for SPI.", P2 ~{IRQ} (oc) "Active Low, Open-Drain Interrupt Request Output. Pull up to DVDD33 with a 10 k ohm resistor.", P3 NC "Not Used. Leave unconnected.", P4 NC "Not Used. Leave unconnected.", P13 DCON (out) "Negative LVDS Data Clock Output (DCON) for Data Bus.", P14 CMOS_DCO (out) "CMOS Data Clock Output for Data Bus."
part C pins: A4 CVDD18 (power) "1.8 V Clock Supply.", A5 CVDD18 (power) "1.8 V Clock Supply.", A12 AVDD33 (power) "3.3 V Analog Supply.", A13 AVDD33 (power) "3.3 V Analog Supply.", B4 CVDD18 (power) "1.8 V Clock Supply.", B5 CVDD18 (power) "1.8 V Clock Supply.", B12 AVDD33 (power) "3.3 V Analog Supply.", B13 AVDD33 (power) "3.3 V Analog Supply.", C4 CVDD18 (power) "1.8 V Clock Supply.", C5 CVDD18 (power) "1.8 V Clock Supply.", C12 AVDD33 (power) "3.3 V Analog Supply.", C13 AVDD33 (power) "3.3 V Analog Supply.", D4 CVDD18 (power) "1.8 V Clock Supply.", D5 CVDD18 (power) "1.8 V Clock Supply.", D12 AVDD33 (power) "3.3 V Analog Supply.", D13 AVDD33 (power) "3.3 V Analog Supply.", E11 DVDD18 (power) "1.8 V Digital Supply.", E12 DVDD18 (power) "1.8 V Digital Supply.", G1 DVDD15 (power) "1.5 V Digital Supply.", G2 DVDD15 (power) "1.5 V Digital Supply.", G3 DVDD15 (power) "1.5 V Digital Supply.", G4 DVDD15 (power) "1.5 V Digital Supply.", G7 DVDD15 (power) "1.5 V Digital Supply.", G8 DVDD15 (power) "1.5 V Digital Supply.", G11 DVDD15 (power) "1.5 V Digital Supply.", G12 DVDD15 (power) "1.5 V Digital Supply.", G13 DVDD15 (power) "1.5 V Digital Supply.", G14 DVDD15 (power) "1.5 V Digital Supply.", K1 DVDD33 (power) "3.3 V Digital Supply.", K2 DVDD33 (power) "3.3 V Digital Supply.", K3 DVDD33 (power) "3.3 V Digital Supply.", K4 DVDD33 (power) "3.3 V Digital Supply.", K11 DVDD33 (power) "3.3 V Digital Supply.", K12 DVDD33 (power) "3.3 V Digital Supply.", K13 DVDD33 (power) "3.3 V Digital Supply.", K14 DVDD33 (power) "3.3 V Digital Supply."
part D pins: A1 AVSS (power) "Analog Supply Ground.", A2 AVSS (power) "Analog Supply Ground.", A3 AVSS (power) "Analog Supply Ground.", A6 AVSS (power) "Analog Supply Ground.", A9 AVSS (power) "Analog Supply Ground.", A10 AVSS (power) "Analog Supply Ground.", A11 AVSS (power) "Analog Supply Ground.", B1 AVSS (power) "Analog Supply Ground.", B2 AVSS (power) "Analog Supply Ground.", B3 AVSS (power) "Analog Supply Ground.", B6 AVSS (power) "Analog Supply Ground.", B7 AVSS (power) "Analog Supply Ground.", B8 AVSS (power) "Analog Supply Ground.", B9 AVSS (power) "Analog Supply Ground.", B10 AVSS (power) "Analog Supply Ground.", B11 AVSS (power) "Analog Supply Ground.", C2 AVSS (power) "Analog Supply Ground.", C3 AVSS (power) "Analog Supply Ground.", C6 AVSS (power) "Analog Supply Ground.", C7 AVSS (power) "Analog Supply Ground.", C8 AVSS (power) "Analog Supply Ground.", C9 AVSS (power) "Analog Supply Ground.", C10 AVSS (power) "Analog Supply Ground.", C11 AVSS (power) "Analog Supply Ground.", D2 AVSS (power) "Analog Supply Ground.", D3 AVSS (power) "Analog Supply Ground.", D6 AVSS (power) "Analog Supply Ground.", D7 AVSS (power) "Analog Supply Ground.", D8 AVSS (power) "Analog Supply Ground.", D9 AVSS (power) "Analog Supply Ground.", D10 AVSS (power) "Analog Supply Ground.", D11 AVSS (power) "Analog Supply Ground.", E1 AVSS (power) "Analog Supply Ground.", E2 AVSS (power) "Analog Supply Ground.", E3 AVSS (power) "Analog Supply Ground.", E4 AVSS (power) "Analog Supply Ground.", E13 AVSS (power) "Analog Supply Ground.", E14 AVSS (power) "Analog Supply Ground.", F1 AVSS (power) "Analog Supply Ground.", F2 AVSS (power) "Analog Supply Ground.", F3 AVSS (power) "Analog Supply Ground.", F4 AVSS (power) "Analog Supply Ground.", F11 AVSS (power) "Analog Supply Ground.", F12 AVSS (power) "Analog Supply Ground.", F13 AVSS (power) "Analog Supply Ground.", F14 AVSS (power) "Analog Supply Ground.", H1 DVSS (power) "Digital Supply Ground.", H2 DVSS (power) "Digital Supply Ground.", H3 DVSS (power) "Digital Supply Ground.", H4 DVSS (power) "Digital Supply Ground.", H7 DVSS (power) "Digital Supply Ground.", H8 DVSS (power) "Digital Supply Ground.", H11 DVSS (power) "Digital Supply Ground.", H12 DVSS (power) "Digital Supply Ground.", H13 DVSS (power) "Digital Supply Ground.", H14 DVSS (power) "Digital Supply Ground.", J1 DVSS (power) "Digital Supply Ground.", J2 DVSS (power) "Digital Supply Ground.", J3 DVSS (power) "Digital Supply Ground.", J4 DVSS (power) "Digital Supply Ground.", J11 DVSS (power) "Digital Supply Ground.", J12 DVSS (power) "Digital Supply Ground.", J13 DVSS (power) "Digital Supply Ground.", J14 DVSS (power) "Digital Supply Ground."

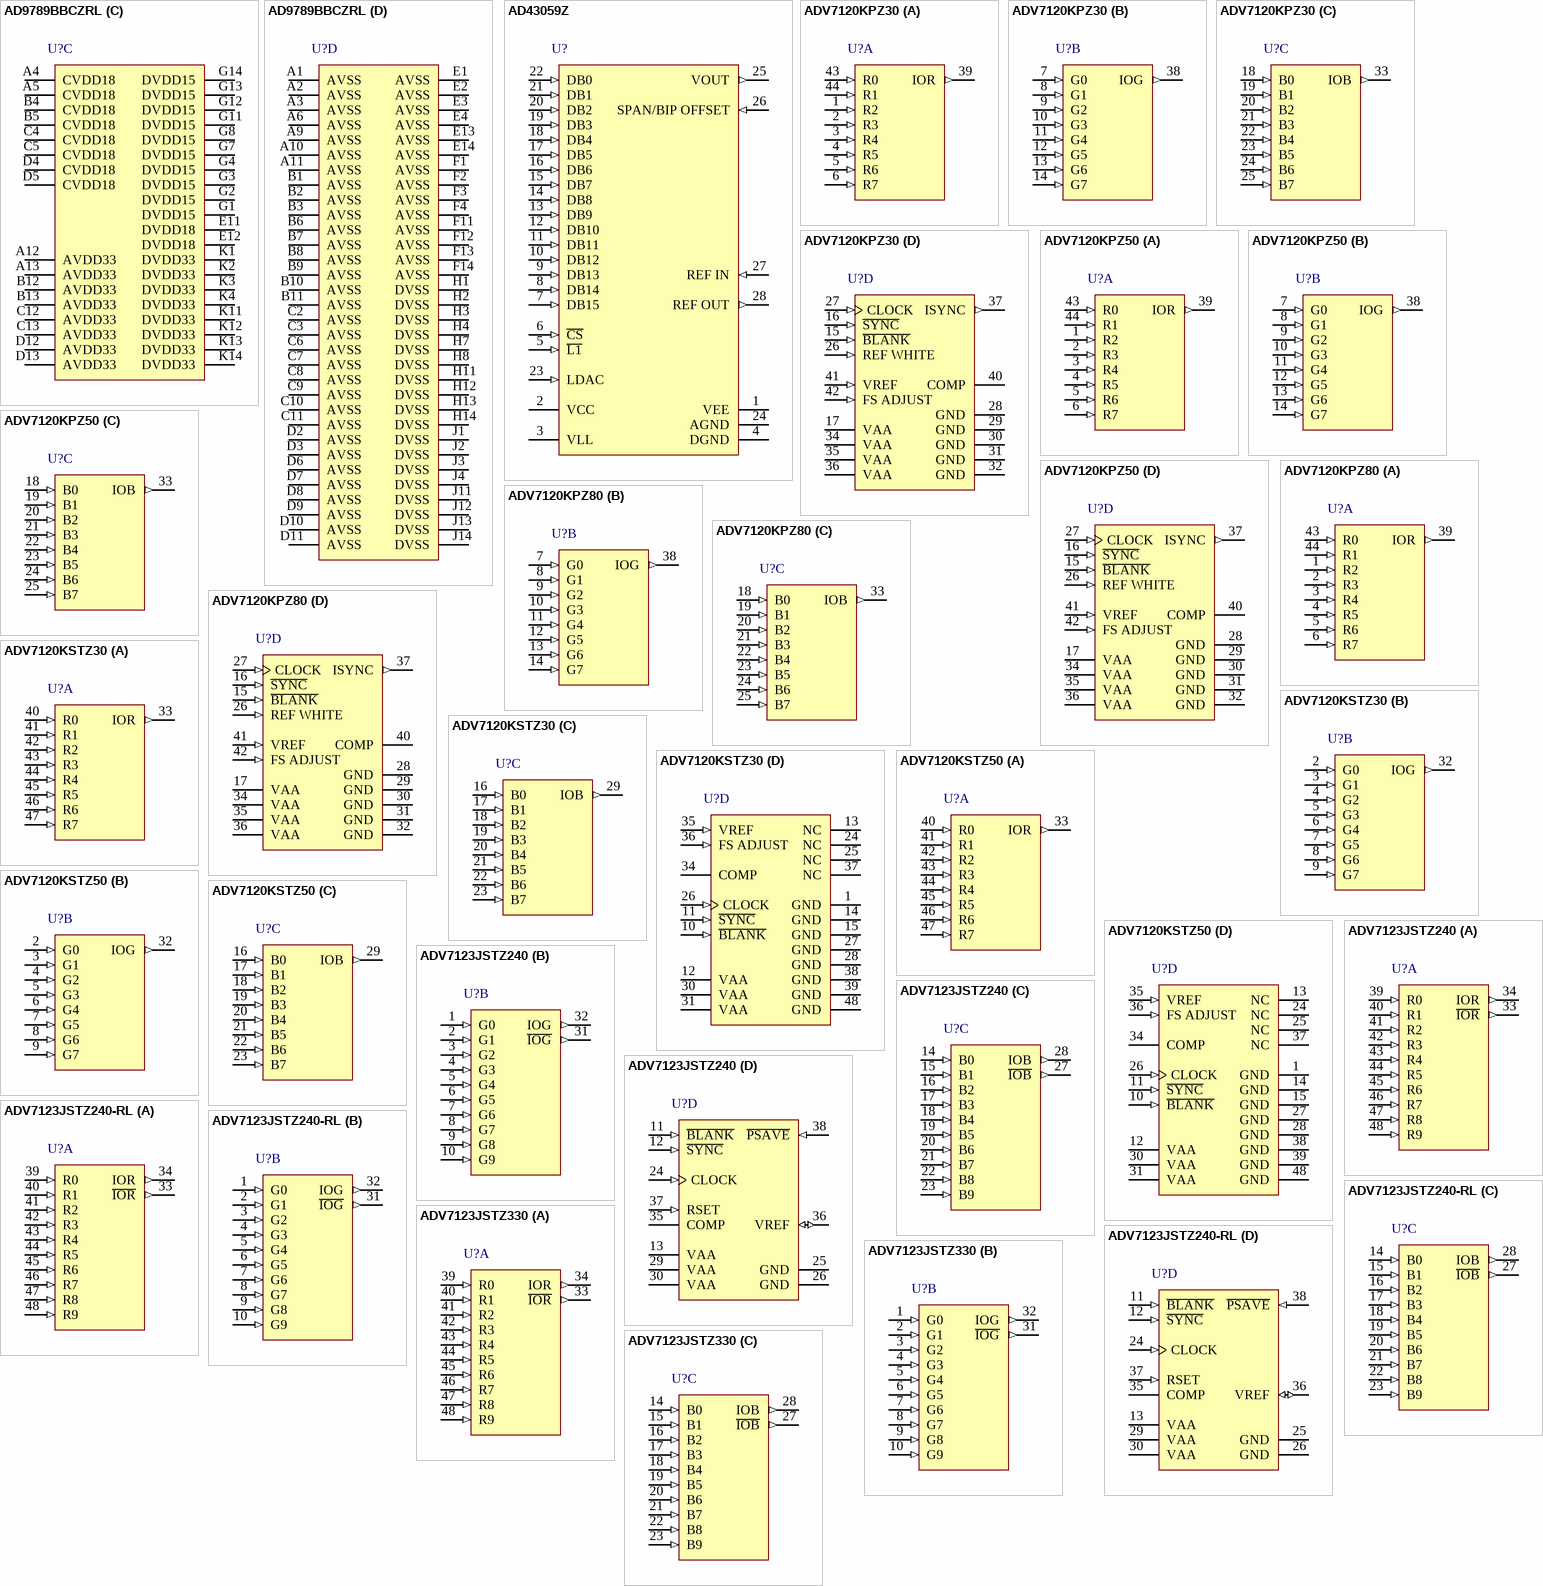
[diagram p107: symbols AD9789BBCZRL to ADV7123JSTZ330]